# Altium integrated library Altera APEX 20KE.IntLib: 235 symbols (part 24 of 49)
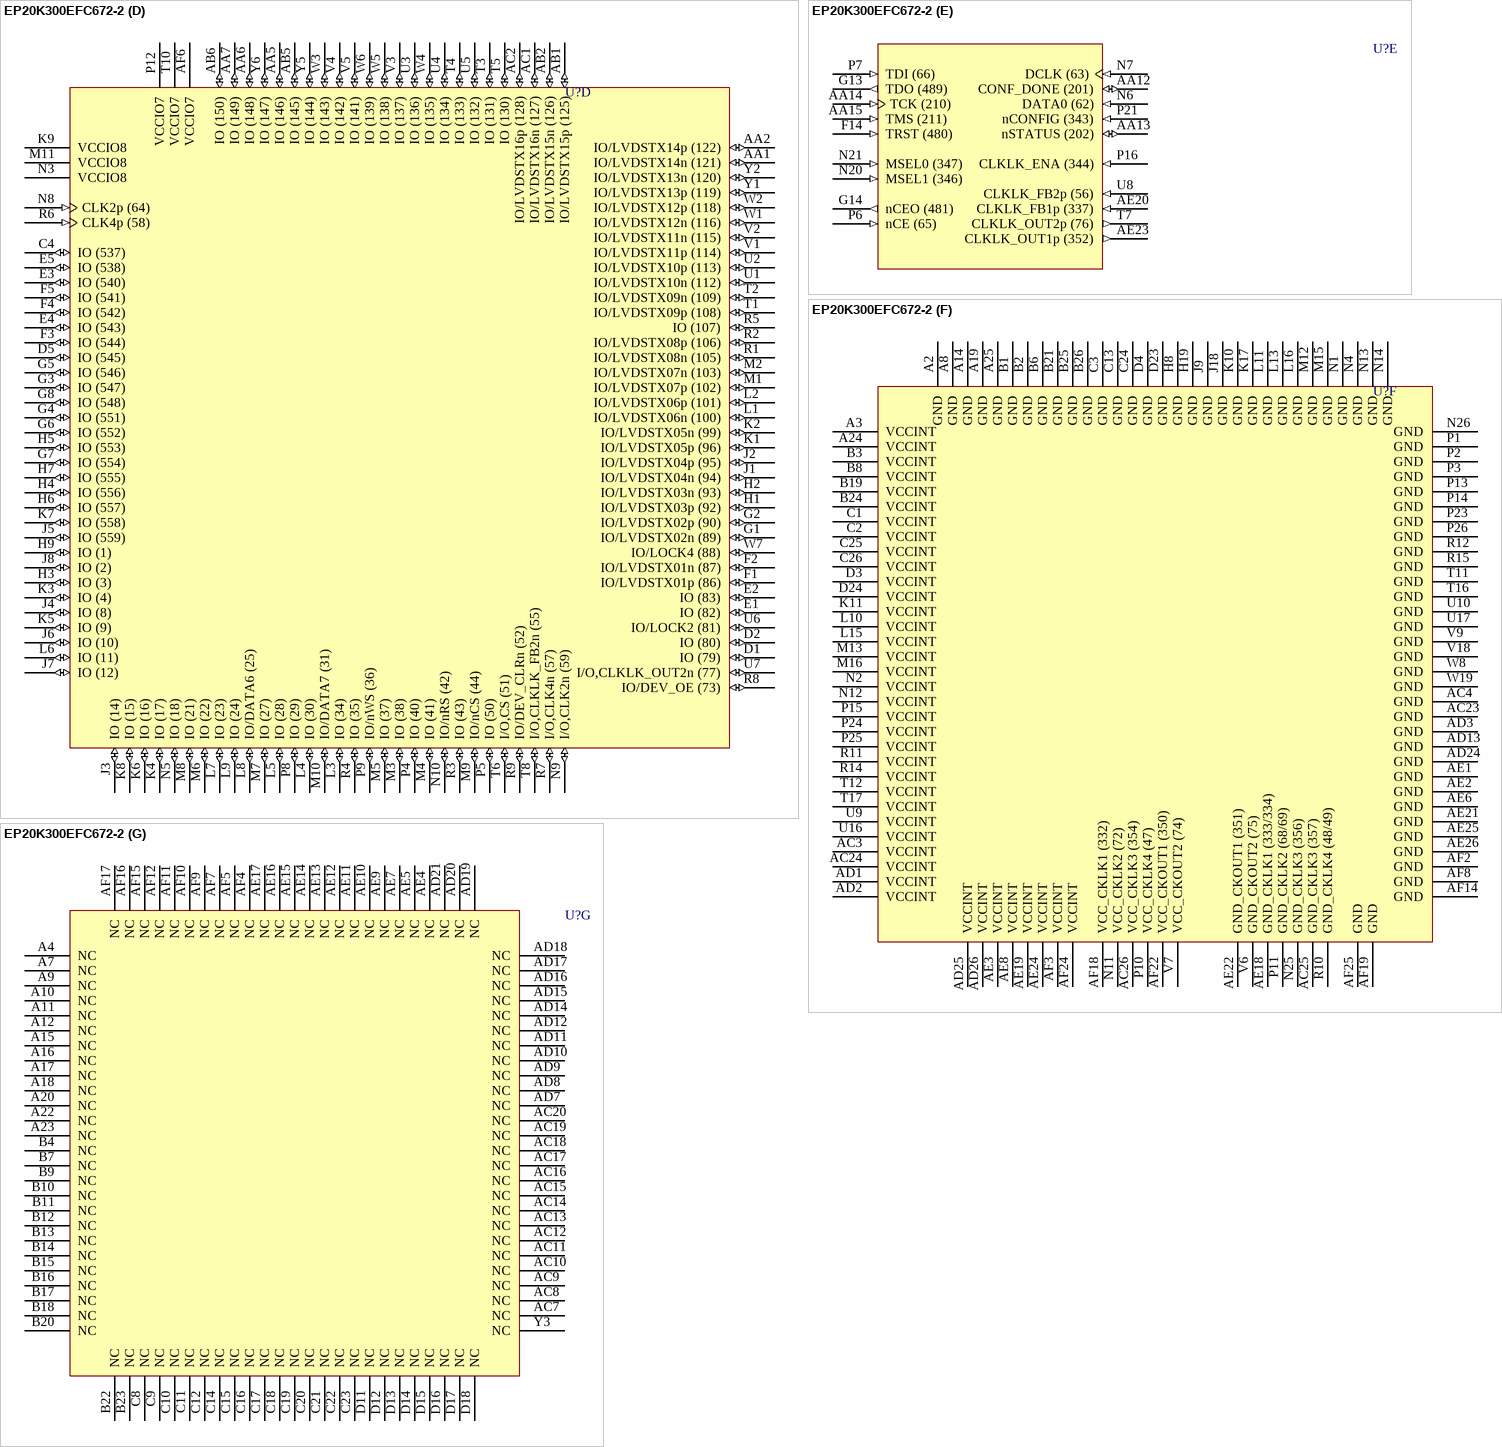
[diagram p422: symbol EP20K300EFC672-2]

## EP20K300EFC672-2
designator U?
APEX 20K300E PLD, 672-Pin FBGA, Commercial Grade, Speed Grade 2; Published: 17-Jul-2002; LatestRevisionDate: 13-Apr-2006; LatestRevisionNote: IPC-7351 Footprint Added.; DatasheetVersion: Mar-2004; PackageVersion: ver14.1, Oct-2005; PackageReference: FBGA672; Publisher: Altium Limited; PackageDescription: 672-Ball FineLine Ball Grid Array (FBGA672) - Flip Chip; Code_JEDEC: MS-034-AAL-1; ComponentLink1Description: Manufacturer Link; ComponentLink1URL: http://www.altera.com/products/devices/apex/apx-index.html; ComponentLink2Description: Datasheet; ComponentLink2URL: http://www.altera.com/literature/ds/apex.pdf
footprint FBGA672 (BGA, 672-Leads, Body 27x27mm, Pitch 1mm)
3D model EP20K300E-FBGA672 (672-Ball FineLine Ball Grid Array (FBGA672) - Flip Chip)
part A pins: A5 IO (535) (io), A6 VCCIO1 (power), A13 VCCIO2 (power), B5 IO (534) (io), C5 IO (533) (io), C6 IO (532) (io), C7 IO (531) (io), D6 IO (522) (io), D7 IO (521) (io), D8 IO (513) (io), D9 IO (508) (io), D10 IO (506) (io), D19 IO (457) (io), D20 IO (454) (io), D21 IO (441) (io), D22 IO (433) (io), E6 IO (530) (io), E7 IO (517) (io), E8 IO (514) (io), E9 IO (505) (io), E10 IO (499) (io), E11 IO (495) (io), E12 IO (494) (io), E13 IO (475) (io), E14 IO (473) (io), E15 IO (471) (io), E16 IO (467) (io), E17 IO (461) (io), E18 IO (459) (io), E19 IO (452) (io), E20 IO (448) (io), E21 IO (439) (io), E23 IO (432) (io), E24 IO (435) (io), F6 IO/DATA5 (560) (io), F7 IO (529) (io), F8 IO (516) (io), F9 IO (507) (io), F10 IO/DATA3 (536) (io), F11 IO (502) (io), F12 IO (492) (io), F13 FAST2 (488) (io), F15 IO (472) (io), F16 IO (465) (io), F17 IO (462) (io), F18 IO (460) (io), F19 IO (451) (io), F20 IO (440) (io), F23 IO (438) (io), F24 IO (434) (io), G9 IO/DATA4 (549) (io), G10 IO (518) (io), G11 IO (504) (io), G12 IO (503) (io), G15 IO (477) (io), G16 IO (468) (io), G17 IO (463) (io), G18 IO (456) (io), G19 IO (450) (io), G23 IO (437) (io), H10 IO (519) (io), H11 IO (510) (io), H12 IO (498) (io), H13 IO (491) (io), H14 FAST1 (482) (io), H15 IO (474) (io), H16 IO (470) (io), H17 IO (464) (io), H18 IO (455) (io), H23 IO (436) (io), J10 VCCIO1 (power), J11 IO (520) (io), J12 IO/DATA2 (523) (io), J13 IO (496) (io), J14 IO/RDYnBSY (497) (io), J15 IO/INIT_DONE (493) (io), J16 IO (479) (io), J17 IO (466) (io), J19 IO (449) (io), K12 IO (509) (io), K13 IO/DATA1 (511) (io), K14 I/O,CLKUSR (500) (io), K15 IO (478) (io), K16 VCCIO2 (power), K18 IO (453) (io), L12 VCCIO1 (power), L14 IO (476) (io), M14 VCCIO2 (power)
part B pins: A21 VCCIO3 (power), AA21 IO (261) (io), AA22 IO (274) (io), AA25 IO/LVDSRX01p (364) (io), AA26 IO/LVDSRX01n (365) (io), AB21 IO (263) (io), AB22 IO (265) (io), AB25 IO (358) (io), AB26 IO (359) (io), AF20 I/O,CLKLK_FB1n (336) (io), AF23 I/O,CLKLK_OUT1n (353) (io), D25 IO/LVDSRX16n (406) (io), D26 IO/LVDSRX16p (407) (io), E22 IO (430) (io), E25 IO/LVDSRX15p (404) (io), E26 IO/LVDSRX15n (405) (io), F21 IO (429) (io), F22 IO (427) (io), F25 IO/LVDSRX14n (400) (io), F26 IO/LVDSRX14p (401) (io), G20 IO (428) (io), G21 IO (425) (io), G22 IO (418) (io), G24 IO (423) (io), G25 IO/LVDSRX13p (398) (io), G26 IO/LVDSRX13n (399) (io), H20 IO (419) (io), H21 IO (424) (io), H22 IO (421) (io), H24 IO (415) (io), H25 IO/LVDSRX12n (395) (io), H26 IO/LVDSRX12p (397) (io), J20 IO (417) (io), J21 IO (426) (io), J22 IO (422) (io), J23 IO (386) (io), J24 IO (361) (io), J25 IO/LVDSRX11p (393) (io), J26 IO/LVDSRX11n (394) (io), K19 IO (416) (io), K20 IO (412) (io), K21 IO (410) (io), K22 IO (413) (io), K23 IO (411) (io), K24 IO (414) (io), K25 IO/LVDSRX10n (391) (io), K26 IO/LVDSRX10p (392) (io), L17 VCCIO3 (power), L18 IO/LOCK3 (366) (io), L19 IO (360) (io), L20 IO (306) (io), L21 IO/LOCK1 (326) (io), L22 IO (325) (io), L23 IO (329) (io), L24 IO (330) (io), L25 IO/LVDSRX09p (387) (io), L26 IO/LVDSRX09n (388) (io), M17 IO (308) (io), M18 IO (310) (io), M19 CLK3p (339) (in), M20 I/O,CLK3n (338) (io), M21 IO (318) (io), M22 IO (322) (io), M23 IO (324) (io), M24 IO (319) (io), M25 IO/LVDSRX08n (384) (io), M26 IO/LVDSRX08p (385) (io), N15 VCCIO3 (power), N16 IO (286) (io), N17 IO (293) (io), N18 IO (302) (io), N19 IO (304) (io), N22 IO (305) (io), N23 IO (331) (io), N24 VCCIO4 (power), P17 IO (280) (io), P18 IO (292) (io), P19 I/O,CLK1n (340) (io), P20 CLK1p (345) (in), P22 IO (299) (io), R16 VCCIO4 (power), R17 IO (276) (io), R18 IO (281) (io), R19 IO (290) (io), R20 IO (298) (io), R21 IO (296) (io), R22 IO (323) (io), R23 IO (312) (io), R24 IO (316) (io), R25 IO/LVDSRX07p (380) (io), R26 IO/LVDSRX07n (381) (io), T18 IO (267) (io), T19 IO (278) (io), T20 IO (284) (io), T21 IO (295) (io), T22 IO (309) (io), T23 IO (311) (io), T24 IO (317) (io), T25 IO/LVDSRX06n (378) (io), T26 IO/LVDSRX06p (379) (io), U18 VCCIO4 (power), U19 IO (264) (io), U20 IO (275) (io), U21 IO (279) (io), U22 IO (297) (io), U23 IO (303) (io), U24 IO (315) (io), U25 IO/LVDSRX05p (374) (io), U26 IO/LVDSRX05n (377) (io), V19 IO (266) (io), V20 IO (269) (io), V21 IO (270) (io), V22 IO (289) (io), V23 IO (291) (io), V24 IO (285) (io), V25 IO/LVDSRX04n (372) (io), V26 IO/LVDSRX04p (373) (io), W21 IO (268) (io), W22 IO (273) (io), W23 IO (277) (io), W24 IO (283) (io), W25 IO/LVDSRX03p (370) (io), W26 IO/LVDSRX03n (371) (io), Y21 IO (272) (io), Y22 IO (262) (io), Y25 IO/LVDSRX02n (367) (io), Y26 IO/LVDSRX02p (368) (io)
part C pins: AA3 IO (159) (io), AA4 IO (154) (io), AA8 IO (174) (io), AA9 IO (173) (io), AA10 IO (182) (io), AA11 IO (186) (io), AA16 IO (223) (io), AA17 IO (229) (io), AA18 IO (232) (io), AA19 IO (237) (io), AA20 IO (250) (io), AA23 IO (256) (io), AA24 IO (257) (io), AB3 IO (157) (io), AB4 IO (153) (io), AB7 IO (161) (io), AB8 IO (170) (io), AB9 IO (179) (io), AB10 IO (185) (io), AB11 IO (183) (io), AB12 IO (199) (io), AB13 IO (212) (io), AB14 IO (214) (io), AB15 IO (218) (io), AB16 IO (220) (io), AB17 IO (227) (io), AB18 IO (230) (io), AB19 IO (243) (io), AB20 IO (242) (io), AB23 IO (258) (io), AB24 IO (251) (io), AC5 IO (155) (io), AC6 IO (168) (io), AC21 IO (253) (io), AC22 IO (252) (io), AD4 IO (158) (io), AD5 IO (160) (io), AD6 IO (169) (io), AD22 IO (239) (io), AD23 IO (249) (io), AF13 VCCIO6 (power), AF21 VCCIO5 (power), R13 VCCIO6 (power), T9 IO (172) (io), T13 IO (194) (io), T14 IO (221) (io), T15 VCCIO5 (power), U11 VCCIO6 (power), U12 IO (197) (io), U13 IO (196) (io), U14 IO (216) (io), U15 IO (226) (io), V8 IO (171) (io), V10 VCCIO6 (power), V11 IO (184) (io), V12 IO (190) (io), V13 IO (200) (io), V14 IO (213) (io), V15 IO (217) (io), V16 IO (228) (io), V17 VCCIO5 (power), W9 IO (177) (io), W10 IO (180) (io), W11 IO (188) (io), W12 IO (191) (io), W13 IO (198) (io), W14 IO (195) (io), W15 IO (219) (io), W16 IO (225) (io), W17 IO (234) (io), W18 IO (236) (io), W20 IO (240) (io), Y4 IO (156) (io), Y7 IO (162) (io), Y8 IO (175) (io), Y9 IO (176) (io), Y10 IO (181) (io), Y11 IO (187) (io), Y12 IO (193) (io), Y13 FAST4 (203) (io), Y14 FAST3 (209) (io), Y15 IO (215) (io), Y16 IO (224) (io), Y17 IO (231) (io), Y18 IO (235) (io), Y19 IO (238) (io), Y20 IO (241) (io), Y23 IO (254) (io), Y24 IO (255) (io)
part D pins: AA1 IO/LVDSTX14n (121) (io), AA2 IO/LVDSTX14p (122) (io), AA5 IO (146) (io), AA6 IO (148) (io), AA7 IO (149) (io), AB1 IO/LVDSTX15p (125) (io), AB2 IO/LVDSTX15n (126) (io), AB5 IO (145) (io), AB6 IO (150) (io), AC1 IO/LVDSTX16n (127) (io), AC2 IO/LVDSTX16p (128) (io), AF6 VCCIO7 (power), C4 IO (537) (io), D1 IO (79) (io), D2 IO (80) (io), D5 IO (545) (io), E1 IO (82) (io), E2 IO (83) (io), E3 IO (540) (io), E4 IO (543) (io), E5 IO (538) (io), F1 IO/LVDSTX01p (86) (io), F2 IO/LVDSTX01n (87) (io), F3 IO (544) (io), F4 IO (542) (io), F5 IO (541) (io), G1 IO/LVDSTX02n (89) (io), G2 IO/LVDSTX02p (90) (io), G3 IO (547) (io), G4 IO (551) (io), G5 IO (546) (io), G6 IO (552) (io), G7 IO (554) (io), G8 IO (548) (io), H1 IO/LVDSTX03p (92) (io), H2 IO/LVDSTX03n (93) (io), H3 IO (3) (io), H4 IO (556) (io), H5 IO (553) (io), H6 IO (557) (io), H7 IO (555) (io), H9 IO (1) (io), J1 IO/LVDSTX04n (94) (io), J2 IO/LVDSTX04p (95) (io), J3 IO (14) (io), J4 IO (8) (io), J5 IO (559) (io), J6 IO (10) (io), J7 IO (12) (io), J8 IO (2) (io), K1 IO/LVDSTX05p (96) (io), K2 IO/LVDSTX05n (99) (io), K3 IO (4) (io), K4 IO (17) (io), K5 IO (9) (io), K6 IO (16) (io), K7 IO (558) (io), K8 IO (15) (io), K9 VCCIO8 (power), L1 IO/LVDSTX06n (100) (io), L2 IO/LVDSTX06p (101) (io), L3 IO (34) (io), L4 IO (30) (io), L5 IO (28) (io), L6 IO (11) (io), L7 IO (23) (io), L8 IO/DATA6 (25) (io), L9 IO (24) (io), M1 IO/LVDSTX07p (102) (io), M2 IO/LVDSTX07n (103) (io), M3 IO (38) (io), M4 IO (41) (io), M5 IO (37) (io), M6 IO (22) (io), M7 IO (27) (io), M8 IO (21) (io), M9 IO/nCS (44) (io), M10 IO/DATA7 (31) (io), M11 VCCIO8 (power), N3 VCCIO8 (power), N5 IO (18) (io), N8 CLK2p (64) (in), N9 I/O,CLK2n (59) (io), N10 IO/nRS (42) (io), P4 IO (40) (io), P5 IO (50) (io), P8 IO (29) (io), P9 IO/nWS (36) (io), P12 VCCIO7 (power), R1 IO/LVDSTX08n (105) (io), R2 IO/LVDSTX08p (106) (io), R3 IO (43) (io), R4 IO (35) (io), R5 IO (107) (io), R6 CLK4p (58) (in), R7 I/O,CLK4n (57) (io), R8 IO/DEV_OE (73) (io), R9 IO/DEV_CLRn (52) (io), T1 IO/LVDSTX09p (108) (io), T2 IO/LVDSTX09n (109) (io), T3 IO (131) (io), T4 IO (133) (io), T5 IO (130) (io), T6 I/O,CS (51) (io), T8 I/O,CLKLK_FB2n (55) (io), T10 VCCIO7 (power), U1 IO/LVDSTX10n (112) (io), U2 IO/LVDSTX10p (113) (io), U3 IO (136) (io), U4 IO (134) (io), U5 IO (132) (io), U6 IO/LOCK2 (81) (io), U7 I/O,CLKLK_OUT2n (77) (io), V1 IO/LVDSTX11p (114) (io), V2 IO/LVDSTX11n (115) (io), V3 IO (137) (io), V4 IO (142) (io), V5 IO (141) (io), W1 IO/LVDSTX12n (116) (io), W2 IO/LVDSTX12p (118) (io), W3 IO (143) (io), W4 IO (135) (io), W5 IO (138) (io), W6 IO (139) (io), W7 IO/LOCK4 (88) (io), Y1 IO/LVDSTX13p (119) (io), Y2 IO/LVDSTX13n (120) (io), Y5 IO (144) (io), Y6 IO (147) (io)
part E pins: AA12 CONF_DONE (201) (io), AA13 nSTATUS (202) (io), AA14 TCK (210) (in), AA15 TMS (211) (in), AE20 CLKLK_FB1p (337) (in), AE23 CLKLK_OUT1p (352) (out), F14 TRST (480) (in), G13 TDO (489) (out), G14 nCEO (481) (out), N6 DATA0 (62) (in), N7 DCLK (63) (in), N20 MSEL1 (346) (in), N21 MSEL0 (347) (in), P6 nCE (65) (in), P7 TDI (66) (in), P16 CLKLK_ENA (344) (in), P21 nCONFIG (343) (in), T7 CLKLK_OUT2p (76) (out), U8 CLKLK_FB2p (56) (in)
part F pins: A2 GND (power), A3 VCCINT (power), A8 GND (power), A14 GND (power), A19 GND (power), A24 VCCINT (power), A25 GND (power), AC3 VCCINT (power), AC4 GND (power), AC23 GND (power), AC24 VCCINT (power), AC25 GND_CKLK3 (357) (power), AC26 VCC_CKLK3 (354) (power), AD1 VCCINT (power), AD2 VCCINT (power), AD3 GND (power), AD13 GND (power), AD24 GND (power), AD25 VCCINT (power), AD26 VCCINT (power), AE1 GND (power), AE2 GND (power), AE3 VCCINT (power), AE6 GND (power), AE8 VCCINT (power), AE18 GND_CKLK1 (333/334) (power), AE19 VCCINT (power), AE21 GND (power), AE22 GND_CKOUT1 (351) (power), AE24 VCCINT (power), AE25 GND (power), AE26 GND (power), AF2 GND (power), AF3 VCCINT (power), AF8 GND (power), AF14 GND (power), AF18 VCC_CKLK1 (332) (power), AF19 GND (power), AF22 VCC_CKOUT1 (350) (power), AF24 VCCINT (power), AF25 GND (power), B1 GND (power), B2 GND (power), B3 VCCINT (power), B6 GND (power), B8 VCCINT (power), B19 VCCINT (power), B21 GND (power), B24 VCCINT (power), B25 GND (power), B26 GND (power), C1 VCCINT (power), C2 VCCINT (power), C3 GND (power), C13 GND (power), C24 GND (power), C25 VCCINT (power), C26 VCCINT (power), D3 VCCINT (power), D4 GND (power), D23 GND (power), D24 VCCINT (power), H8 GND (power), H19 GND (power), J9 GND (power), J18 GND (power), K10 GND (power), K11 VCCINT (power), K17 GND (power), L10 VCCINT (power), L11 GND (power), L13 GND (power), L15 VCCINT (power), L16 GND (power), M12 GND (power), M13 VCCINT (power), M15 GND (power), M16 VCCINT (power), N1 GND (power), N2 VCCINT (power), N4 GND (power), N11 VCC_CKLK2 (72) (power), N12 VCCINT (power), N13 GND (power), N14 GND (power), N25 GND_CKLK3 (356) (power), N26 GND (power), P1 GND (power), P2 GND (power), P3 GND (power), P10 VCC_CKLK4 (47) (power), P11 GND_CKLK2 (68/69) (power), P13 GND (power), P14 GND (power), P15 VCCINT (power), P23 GND (power), P24 VCCINT (power), P25 VCCINT (power), P26 GND (power), R10 GND_CKLK4 (48/49) (power), R11 VCCINT (power), R12 GND (power), R14 VCCINT (power), R15 GND (power), T11 GND (power), T12 VCCINT (power), T16 GND (power), T17 VCCINT (power), U9 VCCINT (power), U10 GND (power), U16 VCCINT (power), U17 GND (power), V6 GND_CKOUT2 (75) (power), V7 VCC_CKOUT2 (74) (power), V9 GND (power), V18 GND (power), W8 GND (power), W19 GND (power)
part G pins: A4 NC, A7 NC, A9 NC, A10 NC, A11 NC, A12 NC, A15 NC, A16 NC, A17 NC, A18 NC, A20 NC, A22 NC, A23 NC, AC7 NC, AC8 NC, AC9 NC, AC10 NC, AC11 NC, AC12 NC, AC13 NC, AC14 NC, AC15 NC, AC16 NC, AC17 NC, AC18 NC, AC19 NC, AC20 NC, AD7 NC, AD8 NC, AD9 NC, AD10 NC, AD11 NC, AD12 NC, AD14 NC, AD15 NC, AD16 NC, AD17 NC, AD18 NC, AD19 NC, AD20 NC, AD21 NC, AE4 NC, AE5 NC, AE7 NC, AE9 NC, AE10 NC, AE11 NC, AE12 NC, AE13 NC, AE14 NC, AE15 NC, AE16 NC, AE17 NC, AF4 NC, AF5 NC, AF7 NC, AF9 NC, AF10 NC, AF11 NC, AF12 NC, AF15 NC, AF16 NC, AF17 NC, B4 NC, B7 NC, B9 NC, B10 NC, B11 NC, B12 NC, B13 NC, B14 NC, B15 NC, B16 NC, B17 NC, B18 NC, B20 NC, B22 NC, B23 NC, C8 NC, C9 NC, C10 NC, C11 NC, C12 NC, C14 NC, C15 NC, C16 NC, C17 NC, C18 NC, C19 NC, C20 NC, C21 NC, C22 NC, C23 NC, D11 NC, D12 NC, D13 NC, D14 NC, D15 NC, D16 NC, D17 NC, D18 NC, Y3 NC

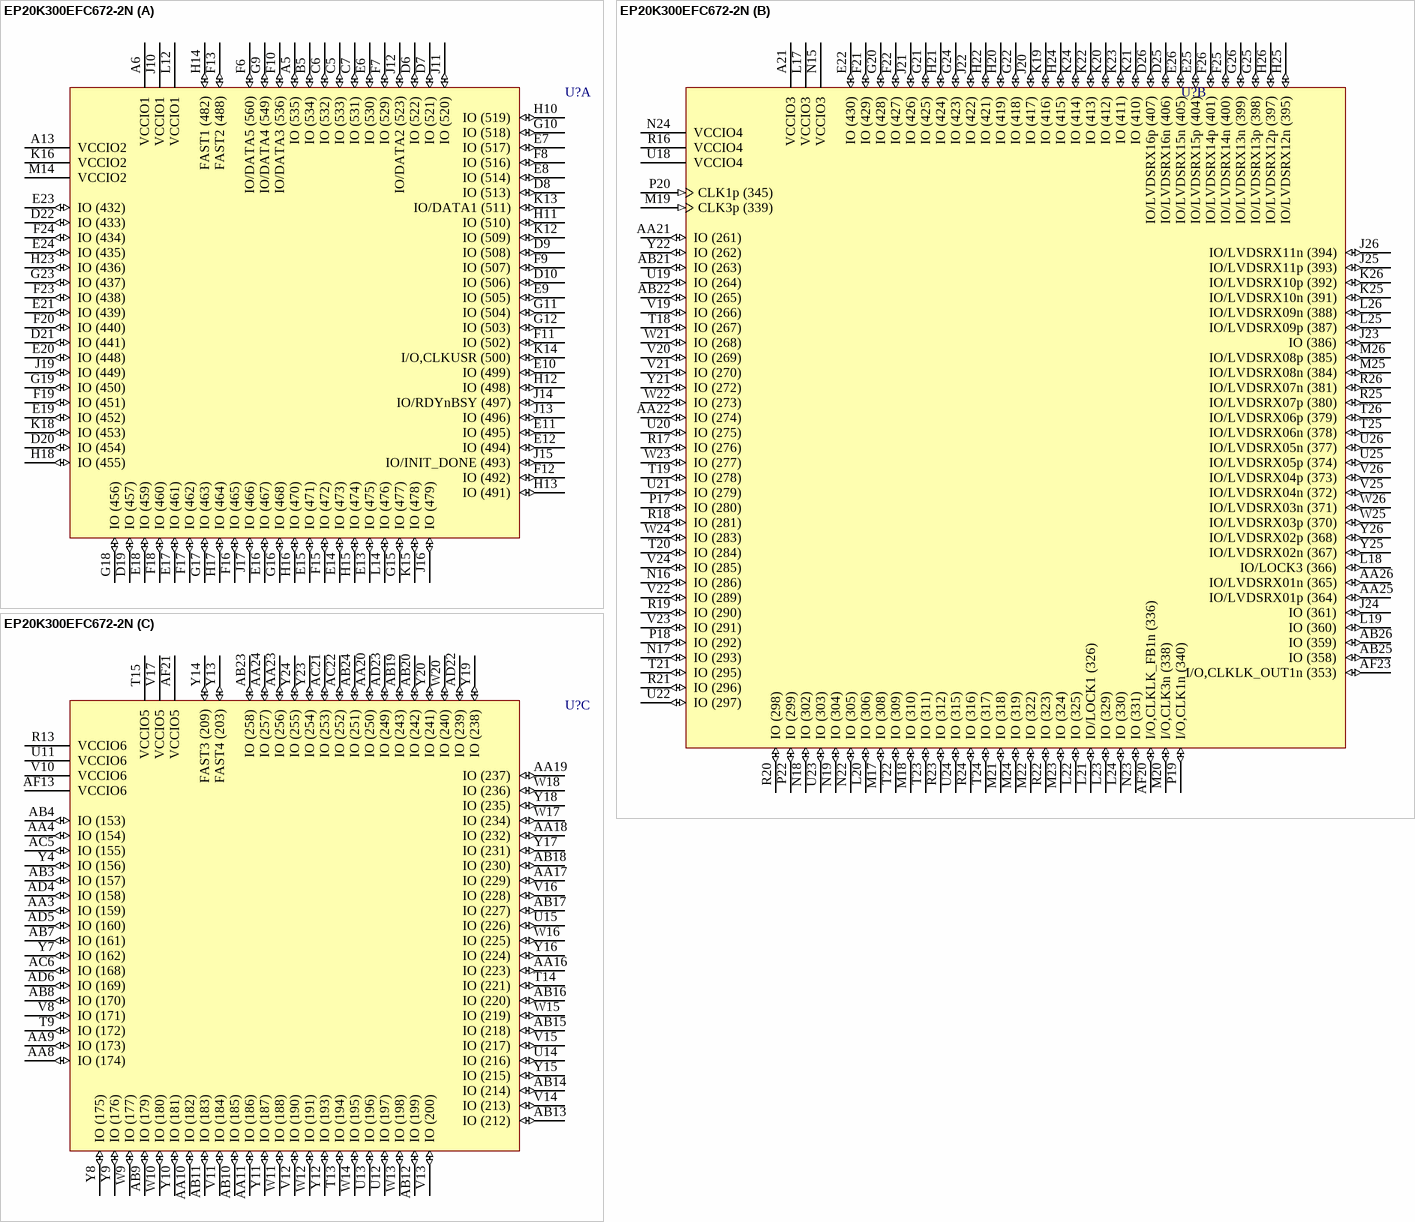
[diagram p233: symbol EP20K300EFC672-2N]

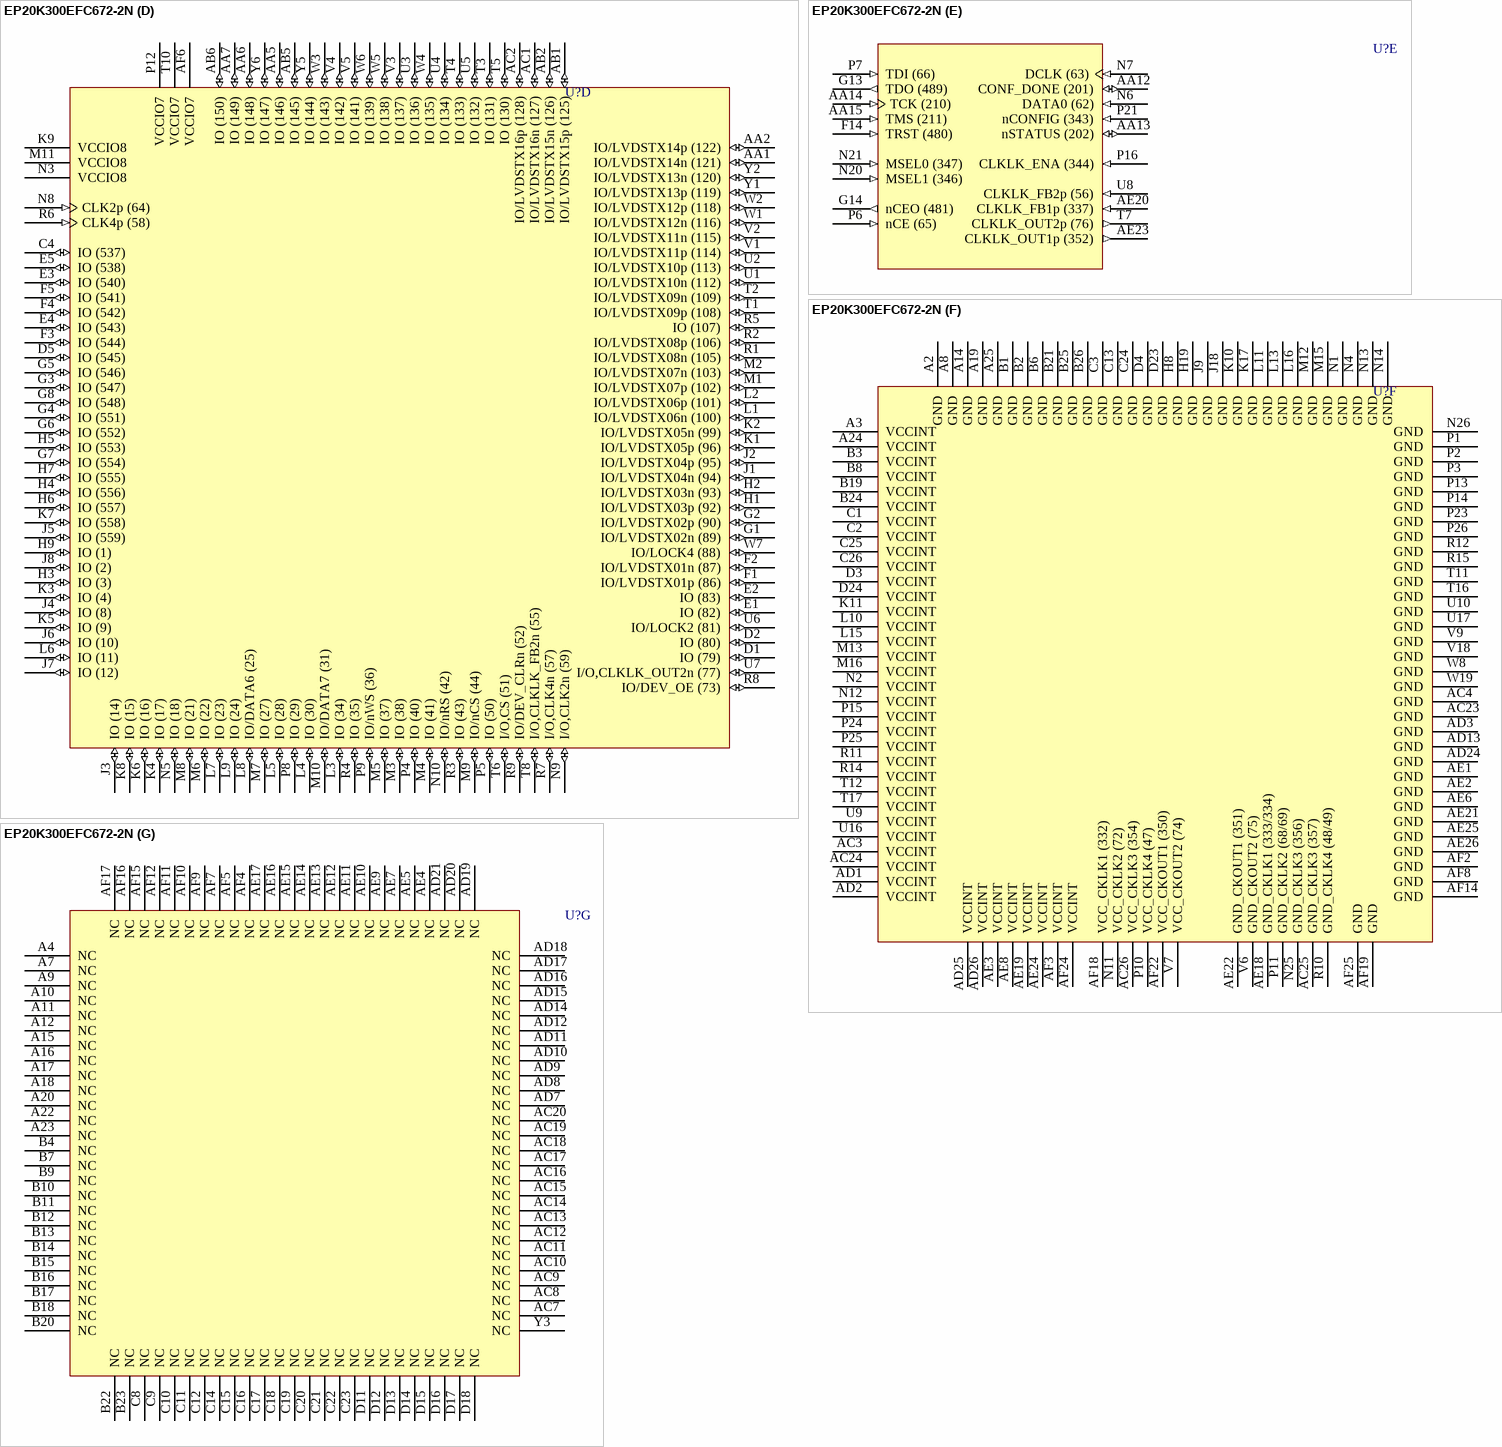
[diagram p234: symbol EP20K300EFC672-2N]

## EP20K300EFC672-2N
designator U?
APEX 20K300E PLD, 672-Pin FBGA, Pb-Free, Commercial Grade, Speed Grade 2; Published: 4-Mar-2005; LatestRevisionDate: 13-Apr-2006; LatestRevisionNote: IPC-7351 Footprint Added.; DatasheetVersion: Mar-2004; PackageVersion: ver14.1, Oct-2005; PackageReference: FBGA672; Publisher: Altium Limited; PackageDescription: 672-Ball FineLine Ball Grid Array (FBGA672) - Flip Chip; Code_JEDEC: MS-034-AAL-1; ComponentLink1Description: Manufacturer Link; ComponentLink1URL: http://www.altera.com/products/devices/apex/apx-index.html; ComponentLink2Description: Datasheet; ComponentLink2URL: http://www.altera.com/literature/ds/apex.pdf
footprint FBGA672 (BGA, 672-Leads, Body 27x27mm, Pitch 1mm)
3D model EP20K300E-FBGA672 (672-Ball FineLine Ball Grid Array (FBGA672) - Flip Chip)
part A pins: A5 IO (535) (io), A6 VCCIO1 (power), A13 VCCIO2 (power), B5 IO (534) (io), C5 IO (533) (io), C6 IO (532) (io), C7 IO (531) (io), D6 IO (522) (io), D7 IO (521) (io), D8 IO (513) (io), D9 IO (508) (io), D10 IO (506) (io), D19 IO (457) (io), D20 IO (454) (io), D21 IO (441) (io), D22 IO (433) (io), E6 IO (530) (io), E7 IO (517) (io), E8 IO (514) (io), E9 IO (505) (io), E10 IO (499) (io), E11 IO (495) (io), E12 IO (494) (io), E13 IO (475) (io), E14 IO (473) (io), E15 IO (471) (io), E16 IO (467) (io), E17 IO (461) (io), E18 IO (459) (io), E19 IO (452) (io), E20 IO (448) (io), E21 IO (439) (io), E23 IO (432) (io), E24 IO (435) (io), F6 IO/DATA5 (560) (io), F7 IO (529) (io), F8 IO (516) (io), F9 IO (507) (io), F10 IO/DATA3 (536) (io), F11 IO (502) (io), F12 IO (492) (io), F13 FAST2 (488) (io), F15 IO (472) (io), F16 IO (465) (io), F17 IO (462) (io), F18 IO (460) (io), F19 IO (451) (io), F20 IO (440) (io), F23 IO (438) (io), F24 IO (434) (io), G9 IO/DATA4 (549) (io), G10 IO (518) (io), G11 IO (504) (io), G12 IO (503) (io), G15 IO (477) (io), G16 IO (468) (io), G17 IO (463) (io), G18 IO (456) (io), G19 IO (450) (io), G23 IO (437) (io), H10 IO (519) (io), H11 IO (510) (io), H12 IO (498) (io), H13 IO (491) (io), H14 FAST1 (482) (io), H15 IO (474) (io), H16 IO (470) (io), H17 IO (464) (io), H18 IO (455) (io), H23 IO (436) (io), J10 VCCIO1 (power), J11 IO (520) (io), J12 IO/DATA2 (523) (io), J13 IO (496) (io), J14 IO/RDYnBSY (497) (io), J15 IO/INIT_DONE (493) (io), J16 IO (479) (io), J17 IO (466) (io), J19 IO (449) (io), K12 IO (509) (io), K13 IO/DATA1 (511) (io), K14 I/O,CLKUSR (500) (io), K15 IO (478) (io), K16 VCCIO2 (power), K18 IO (453) (io), L12 VCCIO1 (power), L14 IO (476) (io), M14 VCCIO2 (power)
part B pins: A21 VCCIO3 (power), AA21 IO (261) (io), AA22 IO (274) (io), AA25 IO/LVDSRX01p (364) (io), AA26 IO/LVDSRX01n (365) (io), AB21 IO (263) (io), AB22 IO (265) (io), AB25 IO (358) (io), AB26 IO (359) (io), AF20 I/O,CLKLK_FB1n (336) (io), AF23 I/O,CLKLK_OUT1n (353) (io), D25 IO/LVDSRX16n (406) (io), D26 IO/LVDSRX16p (407) (io), E22 IO (430) (io), E25 IO/LVDSRX15p (404) (io), E26 IO/LVDSRX15n (405) (io), F21 IO (429) (io), F22 IO (427) (io), F25 IO/LVDSRX14n (400) (io), F26 IO/LVDSRX14p (401) (io), G20 IO (428) (io), G21 IO (425) (io), G22 IO (418) (io), G24 IO (423) (io), G25 IO/LVDSRX13p (398) (io), G26 IO/LVDSRX13n (399) (io), H20 IO (419) (io), H21 IO (424) (io), H22 IO (421) (io), H24 IO (415) (io), H25 IO/LVDSRX12n (395) (io), H26 IO/LVDSRX12p (397) (io), J20 IO (417) (io), J21 IO (426) (io), J22 IO (422) (io), J23 IO (386) (io), J24 IO (361) (io), J25 IO/LVDSRX11p (393) (io), J26 IO/LVDSRX11n (394) (io), K19 IO (416) (io), K20 IO (412) (io), K21 IO (410) (io), K22 IO (413) (io), K23 IO (411) (io), K24 IO (414) (io), K25 IO/LVDSRX10n (391) (io), K26 IO/LVDSRX10p (392) (io), L17 VCCIO3 (power), L18 IO/LOCK3 (366) (io), L19 IO (360) (io), L20 IO (306) (io), L21 IO/LOCK1 (326) (io), L22 IO (325) (io), L23 IO (329) (io), L24 IO (330) (io), L25 IO/LVDSRX09p (387) (io), L26 IO/LVDSRX09n (388) (io), M17 IO (308) (io), M18 IO (310) (io), M19 CLK3p (339) (in), M20 I/O,CLK3n (338) (io), M21 IO (318) (io), M22 IO (322) (io), M23 IO (324) (io), M24 IO (319) (io), M25 IO/LVDSRX08n (384) (io), M26 IO/LVDSRX08p (385) (io), N15 VCCIO3 (power), N16 IO (286) (io), N17 IO (293) (io), N18 IO (302) (io), N19 IO (304) (io), N22 IO (305) (io), N23 IO (331) (io), N24 VCCIO4 (power), P17 IO (280) (io), P18 IO (292) (io), P19 I/O,CLK1n (340) (io), P20 CLK1p (345) (in), P22 IO (299) (io), R16 VCCIO4 (power), R17 IO (276) (io), R18 IO (281) (io), R19 IO (290) (io), R20 IO (298) (io), R21 IO (296) (io), R22 IO (323) (io), R23 IO (312) (io), R24 IO (316) (io), R25 IO/LVDSRX07p (380) (io), R26 IO/LVDSRX07n (381) (io), T18 IO (267) (io), T19 IO (278) (io), T20 IO (284) (io), T21 IO (295) (io), T22 IO (309) (io), T23 IO (311) (io), T24 IO (317) (io), T25 IO/LVDSRX06n (378) (io), T26 IO/LVDSRX06p (379) (io), U18 VCCIO4 (power), U19 IO (264) (io), U20 IO (275) (io), U21 IO (279) (io), U22 IO (297) (io), U23 IO (303) (io), U24 IO (315) (io), U25 IO/LVDSRX05p (374) (io), U26 IO/LVDSRX05n (377) (io), V19 IO (266) (io), V20 IO (269) (io), V21 IO (270) (io), V22 IO (289) (io), V23 IO (291) (io), V24 IO (285) (io), V25 IO/LVDSRX04n (372) (io), V26 IO/LVDSRX04p (373) (io), W21 IO (268) (io), W22 IO (273) (io), W23 IO (277) (io), W24 IO (283) (io), W25 IO/LVDSRX03p (370) (io), W26 IO/LVDSRX03n (371) (io), Y21 IO (272) (io), Y22 IO (262) (io), Y25 IO/LVDSRX02n (367) (io), Y26 IO/LVDSRX02p (368) (io)
part C pins: AA3 IO (159) (io), AA4 IO (154) (io), AA8 IO (174) (io), AA9 IO (173) (io), AA10 IO (182) (io), AA11 IO (186) (io), AA16 IO (223) (io), AA17 IO (229) (io), AA18 IO (232) (io), AA19 IO (237) (io), AA20 IO (250) (io), AA23 IO (256) (io), AA24 IO (257) (io), AB3 IO (157) (io), AB4 IO (153) (io), AB7 IO (161) (io), AB8 IO (170) (io), AB9 IO (179) (io), AB10 IO (185) (io), AB11 IO (183) (io), AB12 IO (199) (io), AB13 IO (212) (io), AB14 IO (214) (io), AB15 IO (218) (io), AB16 IO (220) (io), AB17 IO (227) (io), AB18 IO (230) (io), AB19 IO (243) (io), AB20 IO (242) (io), AB23 IO (258) (io), AB24 IO (251) (io), AC5 IO (155) (io), AC6 IO (168) (io), AC21 IO (253) (io), AC22 IO (252) (io), AD4 IO (158) (io), AD5 IO (160) (io), AD6 IO (169) (io), AD22 IO (239) (io), AD23 IO (249) (io), AF13 VCCIO6 (power), AF21 VCCIO5 (power), R13 VCCIO6 (power), T9 IO (172) (io), T13 IO (194) (io), T14 IO (221) (io), T15 VCCIO5 (power), U11 VCCIO6 (power), U12 IO (197) (io), U13 IO (196) (io), U14 IO (216) (io), U15 IO (226) (io), V8 IO (171) (io), V10 VCCIO6 (power), V11 IO (184) (io), V12 IO (190) (io), V13 IO (200) (io), V14 IO (213) (io), V15 IO (217) (io), V16 IO (228) (io), V17 VCCIO5 (power), W9 IO (177) (io), W10 IO (180) (io), W11 IO (188) (io), W12 IO (191) (io), W13 IO (198) (io), W14 IO (195) (io), W15 IO (219) (io), W16 IO (225) (io), W17 IO (234) (io), W18 IO (236) (io), W20 IO (240) (io), Y4 IO (156) (io), Y7 IO (162) (io), Y8 IO (175) (io), Y9 IO (176) (io), Y10 IO (181) (io), Y11 IO (187) (io), Y12 IO (193) (io), Y13 FAST4 (203) (io), Y14 FAST3 (209) (io), Y15 IO (215) (io), Y16 IO (224) (io), Y17 IO (231) (io), Y18 IO (235) (io), Y19 IO (238) (io), Y20 IO (241) (io), Y23 IO (254) (io), Y24 IO (255) (io)
part D pins: AA1 IO/LVDSTX14n (121) (io), AA2 IO/LVDSTX14p (122) (io), AA5 IO (146) (io), AA6 IO (148) (io), AA7 IO (149) (io), AB1 IO/LVDSTX15p (125) (io), AB2 IO/LVDSTX15n (126) (io), AB5 IO (145) (io), AB6 IO (150) (io), AC1 IO/LVDSTX16n (127) (io), AC2 IO/LVDSTX16p (128) (io), AF6 VCCIO7 (power), C4 IO (537) (io), D1 IO (79) (io), D2 IO (80) (io), D5 IO (545) (io), E1 IO (82) (io), E2 IO (83) (io), E3 IO (540) (io), E4 IO (543) (io), E5 IO (538) (io), F1 IO/LVDSTX01p (86) (io), F2 IO/LVDSTX01n (87) (io), F3 IO (544) (io), F4 IO (542) (io), F5 IO (541) (io), G1 IO/LVDSTX02n (89) (io), G2 IO/LVDSTX02p (90) (io), G3 IO (547) (io), G4 IO (551) (io), G5 IO (546) (io), G6 IO (552) (io), G7 IO (554) (io), G8 IO (548) (io), H1 IO/LVDSTX03p (92) (io), H2 IO/LVDSTX03n (93) (io), H3 IO (3) (io), H4 IO (556) (io), H5 IO (553) (io), H6 IO (557) (io), H7 IO (555) (io), H9 IO (1) (io), J1 IO/LVDSTX04n (94) (io), J2 IO/LVDSTX04p (95) (io), J3 IO (14) (io), J4 IO (8) (io), J5 IO (559) (io), J6 IO (10) (io), J7 IO (12) (io), J8 IO (2) (io), K1 IO/LVDSTX05p (96) (io), K2 IO/LVDSTX05n (99) (io), K3 IO (4) (io), K4 IO (17) (io), K5 IO (9) (io), K6 IO (16) (io), K7 IO (558) (io), K8 IO (15) (io), K9 VCCIO8 (power), L1 IO/LVDSTX06n (100) (io), L2 IO/LVDSTX06p (101) (io), L3 IO (34) (io), L4 IO (30) (io), L5 IO (28) (io), L6 IO (11) (io), L7 IO (23) (io), L8 IO/DATA6 (25) (io), L9 IO (24) (io), M1 IO/LVDSTX07p (102) (io), M2 IO/LVDSTX07n (103) (io), M3 IO (38) (io), M4 IO (41) (io), M5 IO (37) (io), M6 IO (22) (io), M7 IO (27) (io), M8 IO (21) (io), M9 IO/nCS (44) (io), M10 IO/DATA7 (31) (io), M11 VCCIO8 (power), N3 VCCIO8 (power), N5 IO (18) (io), N8 CLK2p (64) (in), N9 I/O,CLK2n (59) (io), N10 IO/nRS (42) (io), P4 IO (40) (io), P5 IO (50) (io), P8 IO (29) (io), P9 IO/nWS (36) (io), P12 VCCIO7 (power), R1 IO/LVDSTX08n (105) (io), R2 IO/LVDSTX08p (106) (io), R3 IO (43) (io), R4 IO (35) (io), R5 IO (107) (io), R6 CLK4p (58) (in), R7 I/O,CLK4n (57) (io), R8 IO/DEV_OE (73) (io), R9 IO/DEV_CLRn (52) (io), T1 IO/LVDSTX09p (108) (io), T2 IO/LVDSTX09n (109) (io), T3 IO (131) (io), T4 IO (133) (io), T5 IO (130) (io), T6 I/O,CS (51) (io), T8 I/O,CLKLK_FB2n (55) (io), T10 VCCIO7 (power), U1 IO/LVDSTX10n (112) (io), U2 IO/LVDSTX10p (113) (io), U3 IO (136) (io), U4 IO (134) (io), U5 IO (132) (io), U6 IO/LOCK2 (81) (io), U7 I/O,CLKLK_OUT2n (77) (io), V1 IO/LVDSTX11p (114) (io), V2 IO/LVDSTX11n (115) (io), V3 IO (137) (io), V4 IO (142) (io), V5 IO (141) (io), W1 IO/LVDSTX12n (116) (io), W2 IO/LVDSTX12p (118) (io), W3 IO (143) (io), W4 IO (135) (io), W5 IO (138) (io), W6 IO (139) (io), W7 IO/LOCK4 (88) (io), Y1 IO/LVDSTX13p (119) (io), Y2 IO/LVDSTX13n (120) (io), Y5 IO (144) (io), Y6 IO (147) (io)
part E pins: AA12 CONF_DONE (201) (io), AA13 nSTATUS (202) (io), AA14 TCK (210) (in), AA15 TMS (211) (in), AE20 CLKLK_FB1p (337) (in), AE23 CLKLK_OUT1p (352) (out), F14 TRST (480) (in), G13 TDO (489) (out), G14 nCEO (481) (out), N6 DATA0 (62) (in), N7 DCLK (63) (in), N20 MSEL1 (346) (in), N21 MSEL0 (347) (in), P6 nCE (65) (in), P7 TDI (66) (in), P16 CLKLK_ENA (344) (in), P21 nCONFIG (343) (in), T7 CLKLK_OUT2p (76) (out), U8 CLKLK_FB2p (56) (in)
part F pins: A2 GND (power), A3 VCCINT (power), A8 GND (power), A14 GND (power), A19 GND (power), A24 VCCINT (power), A25 GND (power), AC3 VCCINT (power), AC4 GND (power), AC23 GND (power), AC24 VCCINT (power), AC25 GND_CKLK3 (357) (power), AC26 VCC_CKLK3 (354) (power), AD1 VCCINT (power), AD2 VCCINT (power), AD3 GND (power), AD13 GND (power), AD24 GND (power), AD25 VCCINT (power), AD26 VCCINT (power), AE1 GND (power), AE2 GND (power), AE3 VCCINT (power), AE6 GND (power), AE8 VCCINT (power), AE18 GND_CKLK1 (333/334) (power), AE19 VCCINT (power), AE21 GND (power), AE22 GND_CKOUT1 (351) (power), AE24 VCCINT (power), AE25 GND (power), AE26 GND (power), AF2 GND (power), AF3 VCCINT (power), AF8 GND (power), AF14 GND (power), AF18 VCC_CKLK1 (332) (power), AF19 GND (power), AF22 VCC_CKOUT1 (350) (power), AF24 VCCINT (power), AF25 GND (power), B1 GND (power), B2 GND (power), B3 VCCINT (power), B6 GND (power), B8 VCCINT (power), B19 VCCINT (power), B21 GND (power), B24 VCCINT (power), B25 GND (power), B26 GND (power), C1 VCCINT (power), C2 VCCINT (power), C3 GND (power), C13 GND (power), C24 GND (power), C25 VCCINT (power), C26 VCCINT (power), D3 VCCINT (power), D4 GND (power), D23 GND (power), D24 VCCINT (power), H8 GND (power), H19 GND (power), J9 GND (power), J18 GND (power), K10 GND (power), K11 VCCINT (power), K17 GND (power), L10 VCCINT (power), L11 GND (power), L13 GND (power), L15 VCCINT (power), L16 GND (power), M12 GND (power), M13 VCCINT (power), M15 GND (power), M16 VCCINT (power), N1 GND (power), N2 VCCINT (power), N4 GND (power), N11 VCC_CKLK2 (72) (power), N12 VCCINT (power), N13 GND (power), N14 GND (power), N25 GND_CKLK3 (356) (power), N26 GND (power), P1 GND (power), P2 GND (power), P3 GND (power), P10 VCC_CKLK4 (47) (power), P11 GND_CKLK2 (68/69) (power), P13 GND (power), P14 GND (power), P15 VCCINT (power), P23 GND (power), P24 VCCINT (power), P25 VCCINT (power), P26 GND (power), R10 GND_CKLK4 (48/49) (power), R11 VCCINT (power), R12 GND (power), R14 VCCINT (power), R15 GND (power), T11 GND (power), T12 VCCINT (power), T16 GND (power), T17 VCCINT (power), U9 VCCINT (power), U10 GND (power), U16 VCCINT (power), U17 GND (power), V6 GND_CKOUT2 (75) (power), V7 VCC_CKOUT2 (74) (power), V9 GND (power), V18 GND (power), W8 GND (power), W19 GND (power)
part G pins: A4 NC, A7 NC, A9 NC, A10 NC, A11 NC, A12 NC, A15 NC, A16 NC, A17 NC, A18 NC, A20 NC, A22 NC, A23 NC, AC7 NC, AC8 NC, AC9 NC, AC10 NC, AC11 NC, AC12 NC, AC13 NC, AC14 NC, AC15 NC, AC16 NC, AC17 NC, AC18 NC, AC19 NC, AC20 NC, AD7 NC, AD8 NC, AD9 NC, AD10 NC, AD11 NC, AD12 NC, AD14 NC, AD15 NC, AD16 NC, AD17 NC, AD18 NC, AD19 NC, AD20 NC, AD21 NC, AE4 NC, AE5 NC, AE7 NC, AE9 NC, AE10 NC, AE11 NC, AE12 NC, AE13 NC, AE14 NC, AE15 NC, AE16 NC, AE17 NC, AF4 NC, AF5 NC, AF7 NC, AF9 NC, AF10 NC, AF11 NC, AF12 NC, AF15 NC, AF16 NC, AF17 NC, B4 NC, B7 NC, B9 NC, B10 NC, B11 NC, B12 NC, B13 NC, B14 NC, B15 NC, B16 NC, B17 NC, B18 NC, B20 NC, B22 NC, B23 NC, C8 NC, C9 NC, C10 NC, C11 NC, C12 NC, C14 NC, C15 NC, C16 NC, C17 NC, C18 NC, C19 NC, C20 NC, C21 NC, C22 NC, C23 NC, D11 NC, D12 NC, D13 NC, D14 NC, D15 NC, D16 NC, D17 NC, D18 NC, Y3 NC

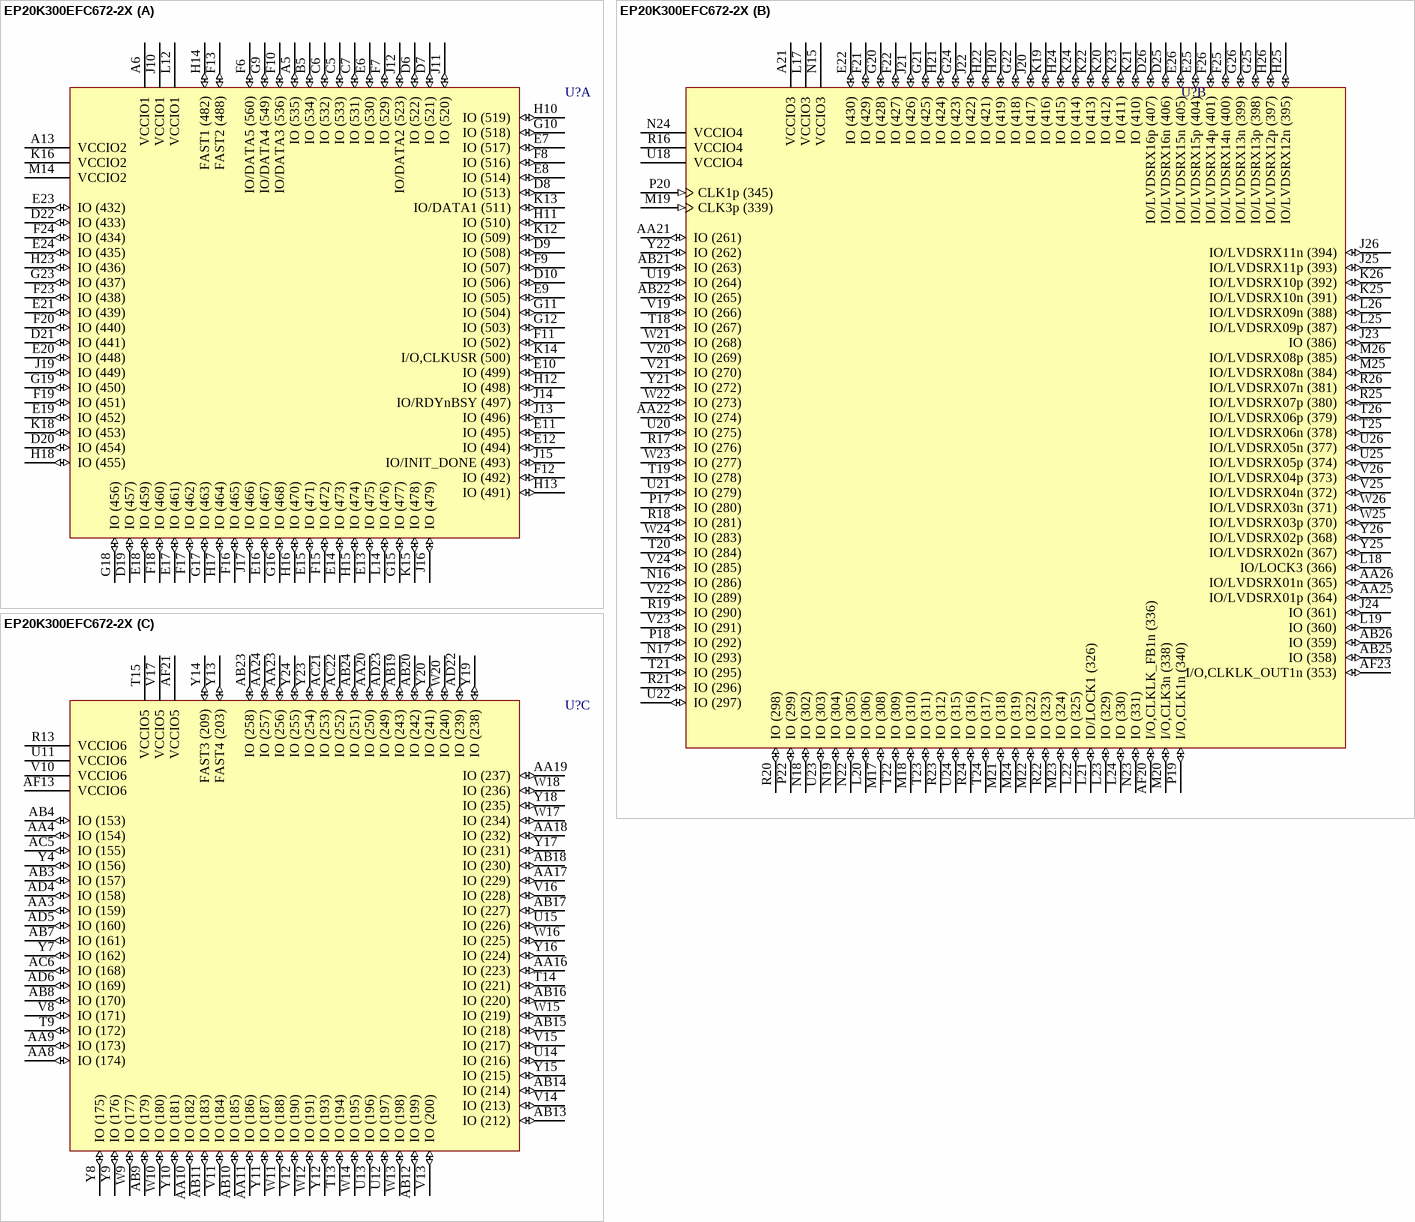
[diagram p235: symbol EP20K300EFC672-2X]

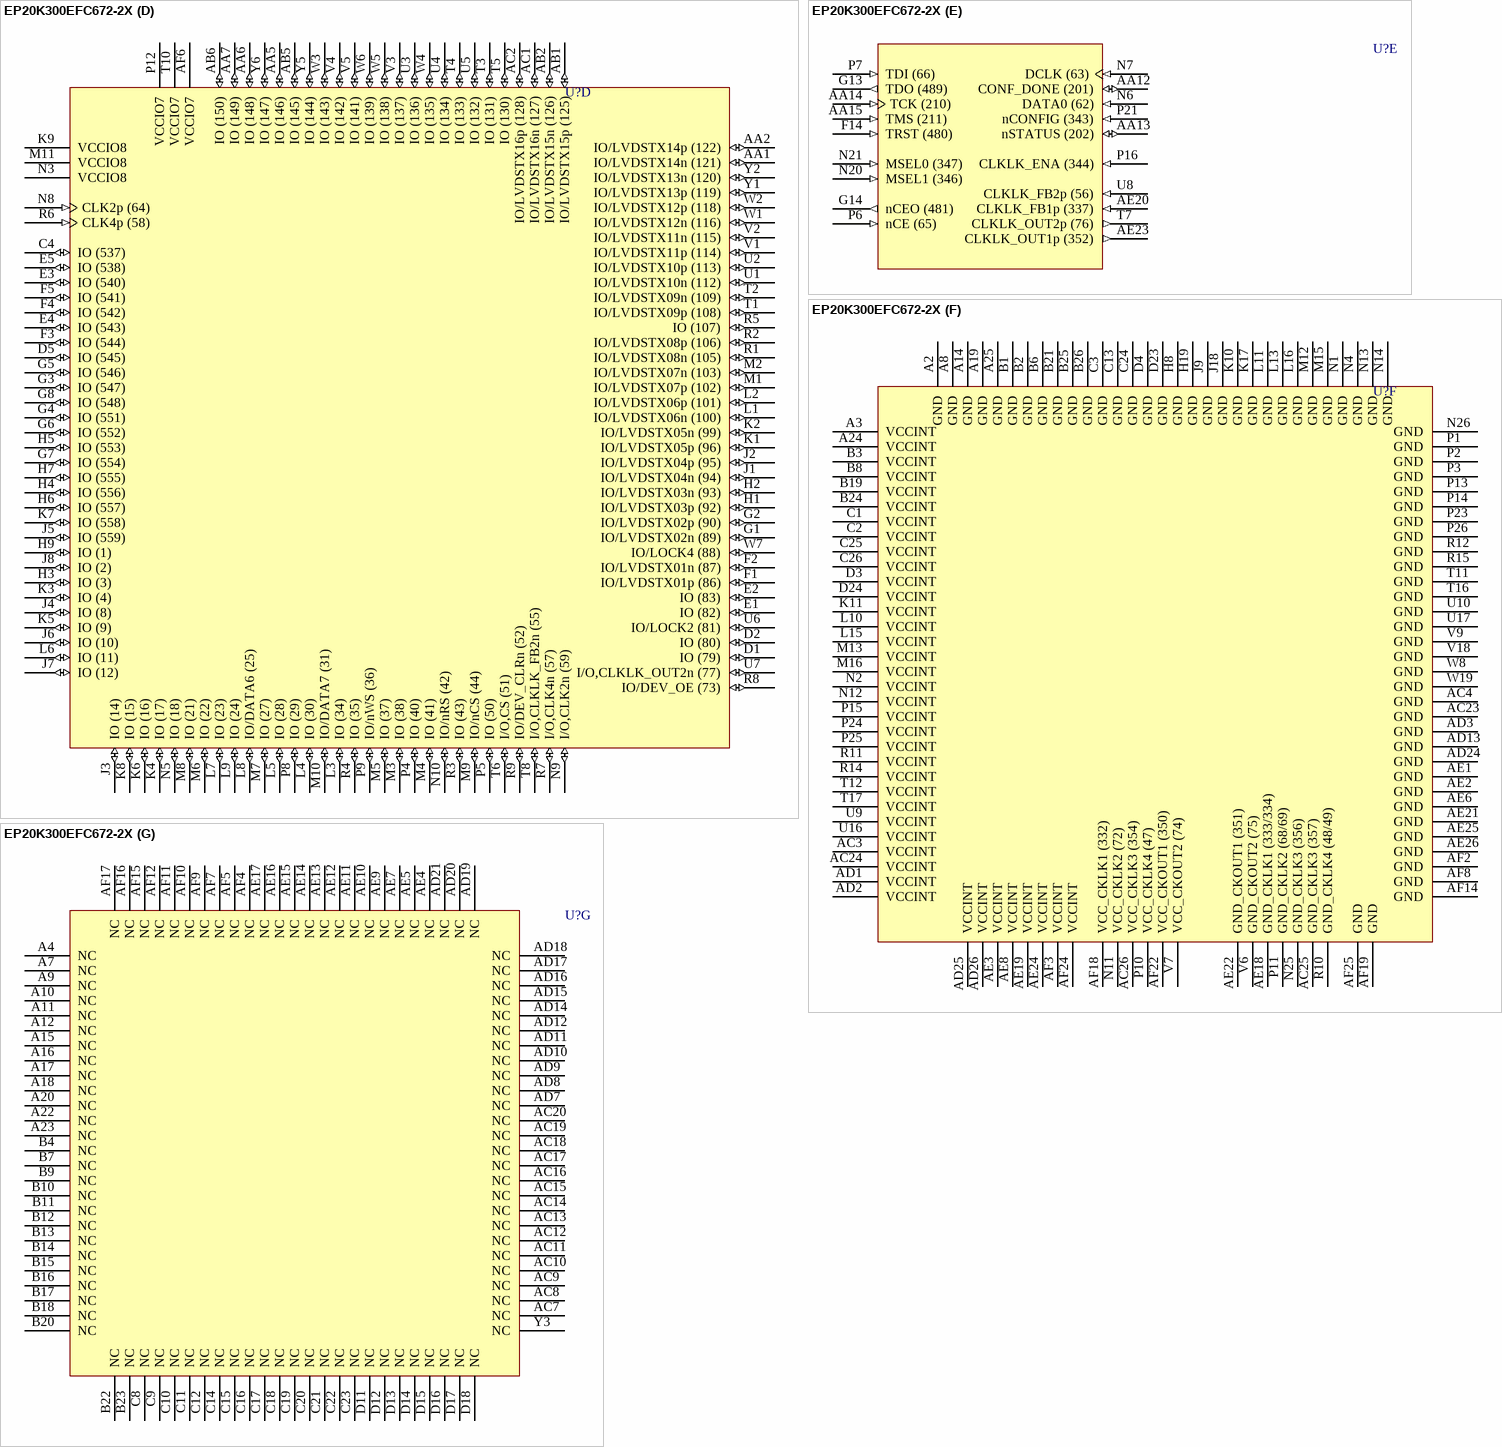
[diagram p236: symbol EP20K300EFC672-2X]

## EP20K300EFC672-2X
designator U?
APEX 20K300E PLD with PLLs and LVDS, 672-Pin FBGA, Commercial Grade, Speed Grade 2; Published: 17-Jul-2002; LatestRevisionDate: 13-Apr-2006; LatestRevisionNote: IPC-7351 Footprint Added.; DatasheetVersion: Mar-2004; PackageVersion: ver14.1, Oct-2005; PackageReference: FBGA672; Publisher: Altium Limited; PackageDescription: 672-Ball FineLine Ball Grid Array (FBGA672) - Flip Chip; Code_JEDEC: MS-034-AAL-1; ComponentLink1Description: Manufacturer Link; ComponentLink1URL: http://www.altera.com/products/devices/apex/apx-index.html; ComponentLink2Description: Datasheet; ComponentLink2URL: http://www.altera.com/literature/ds/apex.pdf
footprint FBGA672 (BGA, 672-Leads, Body 27x27mm, Pitch 1mm)
3D model EP20K300E-FBGA672 (672-Ball FineLine Ball Grid Array (FBGA672) - Flip Chip)
part A pins: A5 IO (535) (io), A6 VCCIO1 (power), A13 VCCIO2 (power), B5 IO (534) (io), C5 IO (533) (io), C6 IO (532) (io), C7 IO (531) (io), D6 IO (522) (io), D7 IO (521) (io), D8 IO (513) (io), D9 IO (508) (io), D10 IO (506) (io), D19 IO (457) (io), D20 IO (454) (io), D21 IO (441) (io), D22 IO (433) (io), E6 IO (530) (io), E7 IO (517) (io), E8 IO (514) (io), E9 IO (505) (io), E10 IO (499) (io), E11 IO (495) (io), E12 IO (494) (io), E13 IO (475) (io), E14 IO (473) (io), E15 IO (471) (io), E16 IO (467) (io), E17 IO (461) (io), E18 IO (459) (io), E19 IO (452) (io), E20 IO (448) (io), E21 IO (439) (io), E23 IO (432) (io), E24 IO (435) (io), F6 IO/DATA5 (560) (io), F7 IO (529) (io), F8 IO (516) (io), F9 IO (507) (io), F10 IO/DATA3 (536) (io), F11 IO (502) (io), F12 IO (492) (io), F13 FAST2 (488) (io), F15 IO (472) (io), F16 IO (465) (io), F17 IO (462) (io), F18 IO (460) (io), F19 IO (451) (io), F20 IO (440) (io), F23 IO (438) (io), F24 IO (434) (io), G9 IO/DATA4 (549) (io), G10 IO (518) (io), G11 IO (504) (io), G12 IO (503) (io), G15 IO (477) (io), G16 IO (468) (io), G17 IO (463) (io), G18 IO (456) (io), G19 IO (450) (io), G23 IO (437) (io), H10 IO (519) (io), H11 IO (510) (io), H12 IO (498) (io), H13 IO (491) (io), H14 FAST1 (482) (io), H15 IO (474) (io), H16 IO (470) (io), H17 IO (464) (io), H18 IO (455) (io), H23 IO (436) (io), J10 VCCIO1 (power), J11 IO (520) (io), J12 IO/DATA2 (523) (io), J13 IO (496) (io), J14 IO/RDYnBSY (497) (io), J15 IO/INIT_DONE (493) (io), J16 IO (479) (io), J17 IO (466) (io), J19 IO (449) (io), K12 IO (509) (io), K13 IO/DATA1 (511) (io), K14 I/O,CLKUSR (500) (io), K15 IO (478) (io), K16 VCCIO2 (power), K18 IO (453) (io), L12 VCCIO1 (power), L14 IO (476) (io), M14 VCCIO2 (power)
part B pins: A21 VCCIO3 (power), AA21 IO (261) (io), AA22 IO (274) (io), AA25 IO/LVDSRX01p (364) (io), AA26 IO/LVDSRX01n (365) (io), AB21 IO (263) (io), AB22 IO (265) (io), AB25 IO (358) (io), AB26 IO (359) (io), AF20 I/O,CLKLK_FB1n (336) (io), AF23 I/O,CLKLK_OUT1n (353) (io), D25 IO/LVDSRX16n (406) (io), D26 IO/LVDSRX16p (407) (io), E22 IO (430) (io), E25 IO/LVDSRX15p (404) (io), E26 IO/LVDSRX15n (405) (io), F21 IO (429) (io), F22 IO (427) (io), F25 IO/LVDSRX14n (400) (io), F26 IO/LVDSRX14p (401) (io), G20 IO (428) (io), G21 IO (425) (io), G22 IO (418) (io), G24 IO (423) (io), G25 IO/LVDSRX13p (398) (io), G26 IO/LVDSRX13n (399) (io), H20 IO (419) (io), H21 IO (424) (io), H22 IO (421) (io), H24 IO (415) (io), H25 IO/LVDSRX12n (395) (io), H26 IO/LVDSRX12p (397) (io), J20 IO (417) (io), J21 IO (426) (io), J22 IO (422) (io), J23 IO (386) (io), J24 IO (361) (io), J25 IO/LVDSRX11p (393) (io), J26 IO/LVDSRX11n (394) (io), K19 IO (416) (io), K20 IO (412) (io), K21 IO (410) (io), K22 IO (413) (io), K23 IO (411) (io), K24 IO (414) (io), K25 IO/LVDSRX10n (391) (io), K26 IO/LVDSRX10p (392) (io), L17 VCCIO3 (power), L18 IO/LOCK3 (366) (io), L19 IO (360) (io), L20 IO (306) (io), L21 IO/LOCK1 (326) (io), L22 IO (325) (io), L23 IO (329) (io), L24 IO (330) (io), L25 IO/LVDSRX09p (387) (io), L26 IO/LVDSRX09n (388) (io), M17 IO (308) (io), M18 IO (310) (io), M19 CLK3p (339) (in), M20 I/O,CLK3n (338) (io), M21 IO (318) (io), M22 IO (322) (io), M23 IO (324) (io), M24 IO (319) (io), M25 IO/LVDSRX08n (384) (io), M26 IO/LVDSRX08p (385) (io), N15 VCCIO3 (power), N16 IO (286) (io), N17 IO (293) (io), N18 IO (302) (io), N19 IO (304) (io), N22 IO (305) (io), N23 IO (331) (io), N24 VCCIO4 (power), P17 IO (280) (io), P18 IO (292) (io), P19 I/O,CLK1n (340) (io), P20 CLK1p (345) (in), P22 IO (299) (io), R16 VCCIO4 (power), R17 IO (276) (io), R18 IO (281) (io), R19 IO (290) (io), R20 IO (298) (io), R21 IO (296) (io), R22 IO (323) (io), R23 IO (312) (io), R24 IO (316) (io), R25 IO/LVDSRX07p (380) (io), R26 IO/LVDSRX07n (381) (io), T18 IO (267) (io), T19 IO (278) (io), T20 IO (284) (io), T21 IO (295) (io), T22 IO (309) (io), T23 IO (311) (io), T24 IO (317) (io), T25 IO/LVDSRX06n (378) (io), T26 IO/LVDSRX06p (379) (io), U18 VCCIO4 (power), U19 IO (264) (io), U20 IO (275) (io), U21 IO (279) (io), U22 IO (297) (io), U23 IO (303) (io), U24 IO (315) (io), U25 IO/LVDSRX05p (374) (io), U26 IO/LVDSRX05n (377) (io), V19 IO (266) (io), V20 IO (269) (io), V21 IO (270) (io), V22 IO (289) (io), V23 IO (291) (io), V24 IO (285) (io), V25 IO/LVDSRX04n (372) (io), V26 IO/LVDSRX04p (373) (io), W21 IO (268) (io), W22 IO (273) (io), W23 IO (277) (io), W24 IO (283) (io), W25 IO/LVDSRX03p (370) (io), W26 IO/LVDSRX03n (371) (io), Y21 IO (272) (io), Y22 IO (262) (io), Y25 IO/LVDSRX02n (367) (io), Y26 IO/LVDSRX02p (368) (io)
part C pins: AA3 IO (159) (io), AA4 IO (154) (io), AA8 IO (174) (io), AA9 IO (173) (io), AA10 IO (182) (io), AA11 IO (186) (io), AA16 IO (223) (io), AA17 IO (229) (io), AA18 IO (232) (io), AA19 IO (237) (io), AA20 IO (250) (io), AA23 IO (256) (io), AA24 IO (257) (io), AB3 IO (157) (io), AB4 IO (153) (io), AB7 IO (161) (io), AB8 IO (170) (io), AB9 IO (179) (io), AB10 IO (185) (io), AB11 IO (183) (io), AB12 IO (199) (io), AB13 IO (212) (io), AB14 IO (214) (io), AB15 IO (218) (io), AB16 IO (220) (io), AB17 IO (227) (io), AB18 IO (230) (io), AB19 IO (243) (io), AB20 IO (242) (io), AB23 IO (258) (io), AB24 IO (251) (io), AC5 IO (155) (io), AC6 IO (168) (io), AC21 IO (253) (io), AC22 IO (252) (io), AD4 IO (158) (io), AD5 IO (160) (io), AD6 IO (169) (io), AD22 IO (239) (io), AD23 IO (249) (io), AF13 VCCIO6 (power), AF21 VCCIO5 (power), R13 VCCIO6 (power), T9 IO (172) (io), T13 IO (194) (io), T14 IO (221) (io), T15 VCCIO5 (power), U11 VCCIO6 (power), U12 IO (197) (io), U13 IO (196) (io), U14 IO (216) (io), U15 IO (226) (io), V8 IO (171) (io), V10 VCCIO6 (power), V11 IO (184) (io), V12 IO (190) (io), V13 IO (200) (io), V14 IO (213) (io), V15 IO (217) (io), V16 IO (228) (io), V17 VCCIO5 (power), W9 IO (177) (io), W10 IO (180) (io), W11 IO (188) (io), W12 IO (191) (io), W13 IO (198) (io), W14 IO (195) (io), W15 IO (219) (io), W16 IO (225) (io), W17 IO (234) (io), W18 IO (236) (io), W20 IO (240) (io), Y4 IO (156) (io), Y7 IO (162) (io), Y8 IO (175) (io), Y9 IO (176) (io), Y10 IO (181) (io), Y11 IO (187) (io), Y12 IO (193) (io), Y13 FAST4 (203) (io), Y14 FAST3 (209) (io), Y15 IO (215) (io), Y16 IO (224) (io), Y17 IO (231) (io), Y18 IO (235) (io), Y19 IO (238) (io), Y20 IO (241) (io), Y23 IO (254) (io), Y24 IO (255) (io)
part D pins: AA1 IO/LVDSTX14n (121) (io), AA2 IO/LVDSTX14p (122) (io), AA5 IO (146) (io), AA6 IO (148) (io), AA7 IO (149) (io), AB1 IO/LVDSTX15p (125) (io), AB2 IO/LVDSTX15n (126) (io), AB5 IO (145) (io), AB6 IO (150) (io), AC1 IO/LVDSTX16n (127) (io), AC2 IO/LVDSTX16p (128) (io), AF6 VCCIO7 (power), C4 IO (537) (io), D1 IO (79) (io), D2 IO (80) (io), D5 IO (545) (io), E1 IO (82) (io), E2 IO (83) (io), E3 IO (540) (io), E4 IO (543) (io), E5 IO (538) (io), F1 IO/LVDSTX01p (86) (io), F2 IO/LVDSTX01n (87) (io), F3 IO (544) (io), F4 IO (542) (io), F5 IO (541) (io), G1 IO/LVDSTX02n (89) (io), G2 IO/LVDSTX02p (90) (io), G3 IO (547) (io), G4 IO (551) (io), G5 IO (546) (io), G6 IO (552) (io), G7 IO (554) (io), G8 IO (548) (io), H1 IO/LVDSTX03p (92) (io), H2 IO/LVDSTX03n (93) (io), H3 IO (3) (io), H4 IO (556) (io), H5 IO (553) (io), H6 IO (557) (io), H7 IO (555) (io), H9 IO (1) (io), J1 IO/LVDSTX04n (94) (io), J2 IO/LVDSTX04p (95) (io), J3 IO (14) (io), J4 IO (8) (io), J5 IO (559) (io), J6 IO (10) (io), J7 IO (12) (io), J8 IO (2) (io), K1 IO/LVDSTX05p (96) (io), K2 IO/LVDSTX05n (99) (io), K3 IO (4) (io), K4 IO (17) (io), K5 IO (9) (io), K6 IO (16) (io), K7 IO (558) (io), K8 IO (15) (io), K9 VCCIO8 (power), L1 IO/LVDSTX06n (100) (io), L2 IO/LVDSTX06p (101) (io), L3 IO (34) (io), L4 IO (30) (io), L5 IO (28) (io), L6 IO (11) (io), L7 IO (23) (io), L8 IO/DATA6 (25) (io), L9 IO (24) (io), M1 IO/LVDSTX07p (102) (io), M2 IO/LVDSTX07n (103) (io), M3 IO (38) (io), M4 IO (41) (io), M5 IO (37) (io), M6 IO (22) (io), M7 IO (27) (io), M8 IO (21) (io), M9 IO/nCS (44) (io), M10 IO/DATA7 (31) (io), M11 VCCIO8 (power), N3 VCCIO8 (power), N5 IO (18) (io), N8 CLK2p (64) (in), N9 I/O,CLK2n (59) (io), N10 IO/nRS (42) (io), P4 IO (40) (io), P5 IO (50) (io), P8 IO (29) (io), P9 IO/nWS (36) (io), P12 VCCIO7 (power), R1 IO/LVDSTX08n (105) (io), R2 IO/LVDSTX08p (106) (io), R3 IO (43) (io), R4 IO (35) (io), R5 IO (107) (io), R6 CLK4p (58) (in), R7 I/O,CLK4n (57) (io), R8 IO/DEV_OE (73) (io), R9 IO/DEV_CLRn (52) (io), T1 IO/LVDSTX09p (108) (io), T2 IO/LVDSTX09n (109) (io), T3 IO (131) (io), T4 IO (133) (io), T5 IO (130) (io), T6 I/O,CS (51) (io), T8 I/O,CLKLK_FB2n (55) (io), T10 VCCIO7 (power), U1 IO/LVDSTX10n (112) (io), U2 IO/LVDSTX10p (113) (io), U3 IO (136) (io), U4 IO (134) (io), U5 IO (132) (io), U6 IO/LOCK2 (81) (io), U7 I/O,CLKLK_OUT2n (77) (io), V1 IO/LVDSTX11p (114) (io), V2 IO/LVDSTX11n (115) (io), V3 IO (137) (io), V4 IO (142) (io), V5 IO (141) (io), W1 IO/LVDSTX12n (116) (io), W2 IO/LVDSTX12p (118) (io), W3 IO (143) (io), W4 IO (135) (io), W5 IO (138) (io), W6 IO (139) (io), W7 IO/LOCK4 (88) (io), Y1 IO/LVDSTX13p (119) (io), Y2 IO/LVDSTX13n (120) (io), Y5 IO (144) (io), Y6 IO (147) (io)
part E pins: AA12 CONF_DONE (201) (io), AA13 nSTATUS (202) (io), AA14 TCK (210) (in), AA15 TMS (211) (in), AE20 CLKLK_FB1p (337) (in), AE23 CLKLK_OUT1p (352) (out), F14 TRST (480) (in), G13 TDO (489) (out), G14 nCEO (481) (out), N6 DATA0 (62) (in), N7 DCLK (63) (in), N20 MSEL1 (346) (in), N21 MSEL0 (347) (in), P6 nCE (65) (in), P7 TDI (66) (in), P16 CLKLK_ENA (344) (in), P21 nCONFIG (343) (in), T7 CLKLK_OUT2p (76) (out), U8 CLKLK_FB2p (56) (in)
part F pins: A2 GND (power), A3 VCCINT (power), A8 GND (power), A14 GND (power), A19 GND (power), A24 VCCINT (power), A25 GND (power), AC3 VCCINT (power), AC4 GND (power), AC23 GND (power), AC24 VCCINT (power), AC25 GND_CKLK3 (357) (power), AC26 VCC_CKLK3 (354) (power), AD1 VCCINT (power), AD2 VCCINT (power), AD3 GND (power), AD13 GND (power), AD24 GND (power), AD25 VCCINT (power), AD26 VCCINT (power), AE1 GND (power), AE2 GND (power), AE3 VCCINT (power), AE6 GND (power), AE8 VCCINT (power), AE18 GND_CKLK1 (333/334) (power), AE19 VCCINT (power), AE21 GND (power), AE22 GND_CKOUT1 (351) (power), AE24 VCCINT (power), AE25 GND (power), AE26 GND (power), AF2 GND (power), AF3 VCCINT (power), AF8 GND (power), AF14 GND (power), AF18 VCC_CKLK1 (332) (power), AF19 GND (power), AF22 VCC_CKOUT1 (350) (power), AF24 VCCINT (power), AF25 GND (power), B1 GND (power), B2 GND (power), B3 VCCINT (power), B6 GND (power), B8 VCCINT (power), B19 VCCINT (power), B21 GND (power), B24 VCCINT (power), B25 GND (power), B26 GND (power), C1 VCCINT (power), C2 VCCINT (power), C3 GND (power), C13 GND (power), C24 GND (power), C25 VCCINT (power), C26 VCCINT (power), D3 VCCINT (power), D4 GND (power), D23 GND (power), D24 VCCINT (power), H8 GND (power), H19 GND (power), J9 GND (power), J18 GND (power), K10 GND (power), K11 VCCINT (power), K17 GND (power), L10 VCCINT (power), L11 GND (power), L13 GND (power), L15 VCCINT (power), L16 GND (power), M12 GND (power), M13 VCCINT (power), M15 GND (power), M16 VCCINT (power), N1 GND (power), N2 VCCINT (power), N4 GND (power), N11 VCC_CKLK2 (72) (power), N12 VCCINT (power), N13 GND (power), N14 GND (power), N25 GND_CKLK3 (356) (power), N26 GND (power), P1 GND (power), P2 GND (power), P3 GND (power), P10 VCC_CKLK4 (47) (power), P11 GND_CKLK2 (68/69) (power), P13 GND (power), P14 GND (power), P15 VCCINT (power), P23 GND (power), P24 VCCINT (power), P25 VCCINT (power), P26 GND (power), R10 GND_CKLK4 (48/49) (power), R11 VCCINT (power), R12 GND (power), R14 VCCINT (power), R15 GND (power), T11 GND (power), T12 VCCINT (power), T16 GND (power), T17 VCCINT (power), U9 VCCINT (power), U10 GND (power), U16 VCCINT (power), U17 GND (power), V6 GND_CKOUT2 (75) (power), V7 VCC_CKOUT2 (74) (power), V9 GND (power), V18 GND (power), W8 GND (power), W19 GND (power)
part G pins: A4 NC, A7 NC, A9 NC, A10 NC, A11 NC, A12 NC, A15 NC, A16 NC, A17 NC, A18 NC, A20 NC, A22 NC, A23 NC, AC7 NC, AC8 NC, AC9 NC, AC10 NC, AC11 NC, AC12 NC, AC13 NC, AC14 NC, AC15 NC, AC16 NC, AC17 NC, AC18 NC, AC19 NC, AC20 NC, AD7 NC, AD8 NC, AD9 NC, AD10 NC, AD11 NC, AD12 NC, AD14 NC, AD15 NC, AD16 NC, AD17 NC, AD18 NC, AD19 NC, AD20 NC, AD21 NC, AE4 NC, AE5 NC, AE7 NC, AE9 NC, AE10 NC, AE11 NC, AE12 NC, AE13 NC, AE14 NC, AE15 NC, AE16 NC, AE17 NC, AF4 NC, AF5 NC, AF7 NC, AF9 NC, AF10 NC, AF11 NC, AF12 NC, AF15 NC, AF16 NC, AF17 NC, B4 NC, B7 NC, B9 NC, B10 NC, B11 NC, B12 NC, B13 NC, B14 NC, B15 NC, B16 NC, B17 NC, B18 NC, B20 NC, B22 NC, B23 NC, C8 NC, C9 NC, C10 NC, C11 NC, C12 NC, C14 NC, C15 NC, C16 NC, C17 NC, C18 NC, C19 NC, C20 NC, C21 NC, C22 NC, C23 NC, D11 NC, D12 NC, D13 NC, D14 NC, D15 NC, D16 NC, D17 NC, D18 NC, Y3 NC

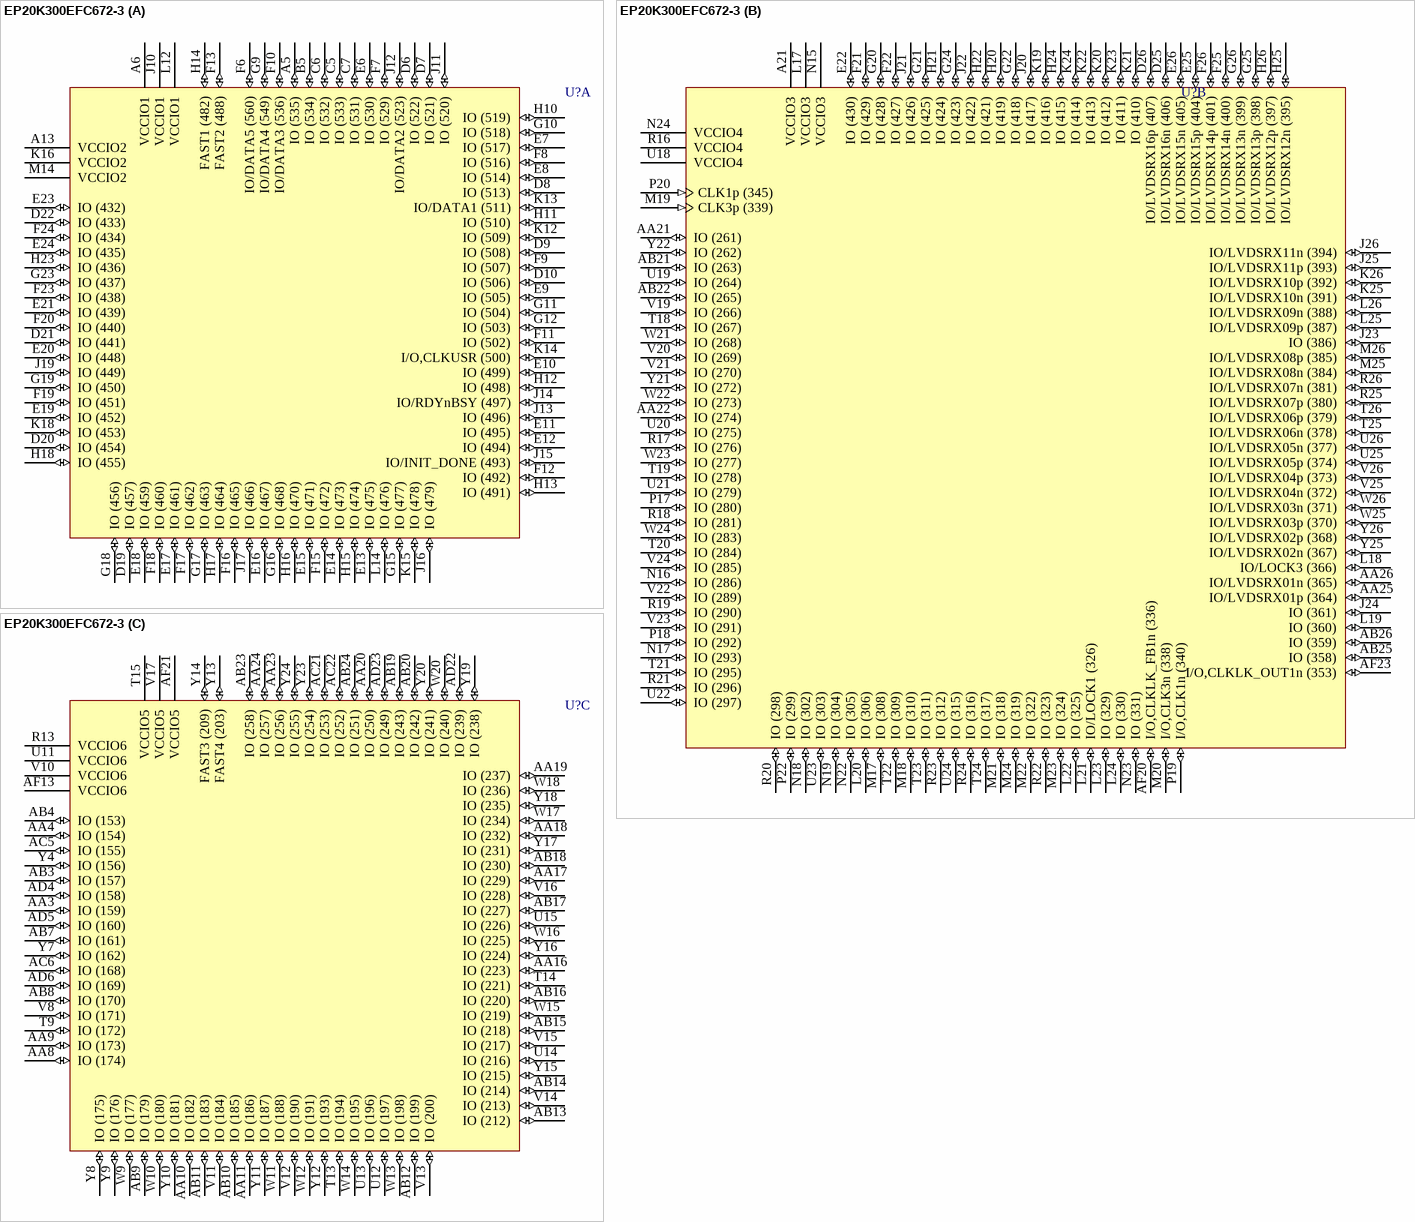
[diagram p237: symbol EP20K300EFC672-3]

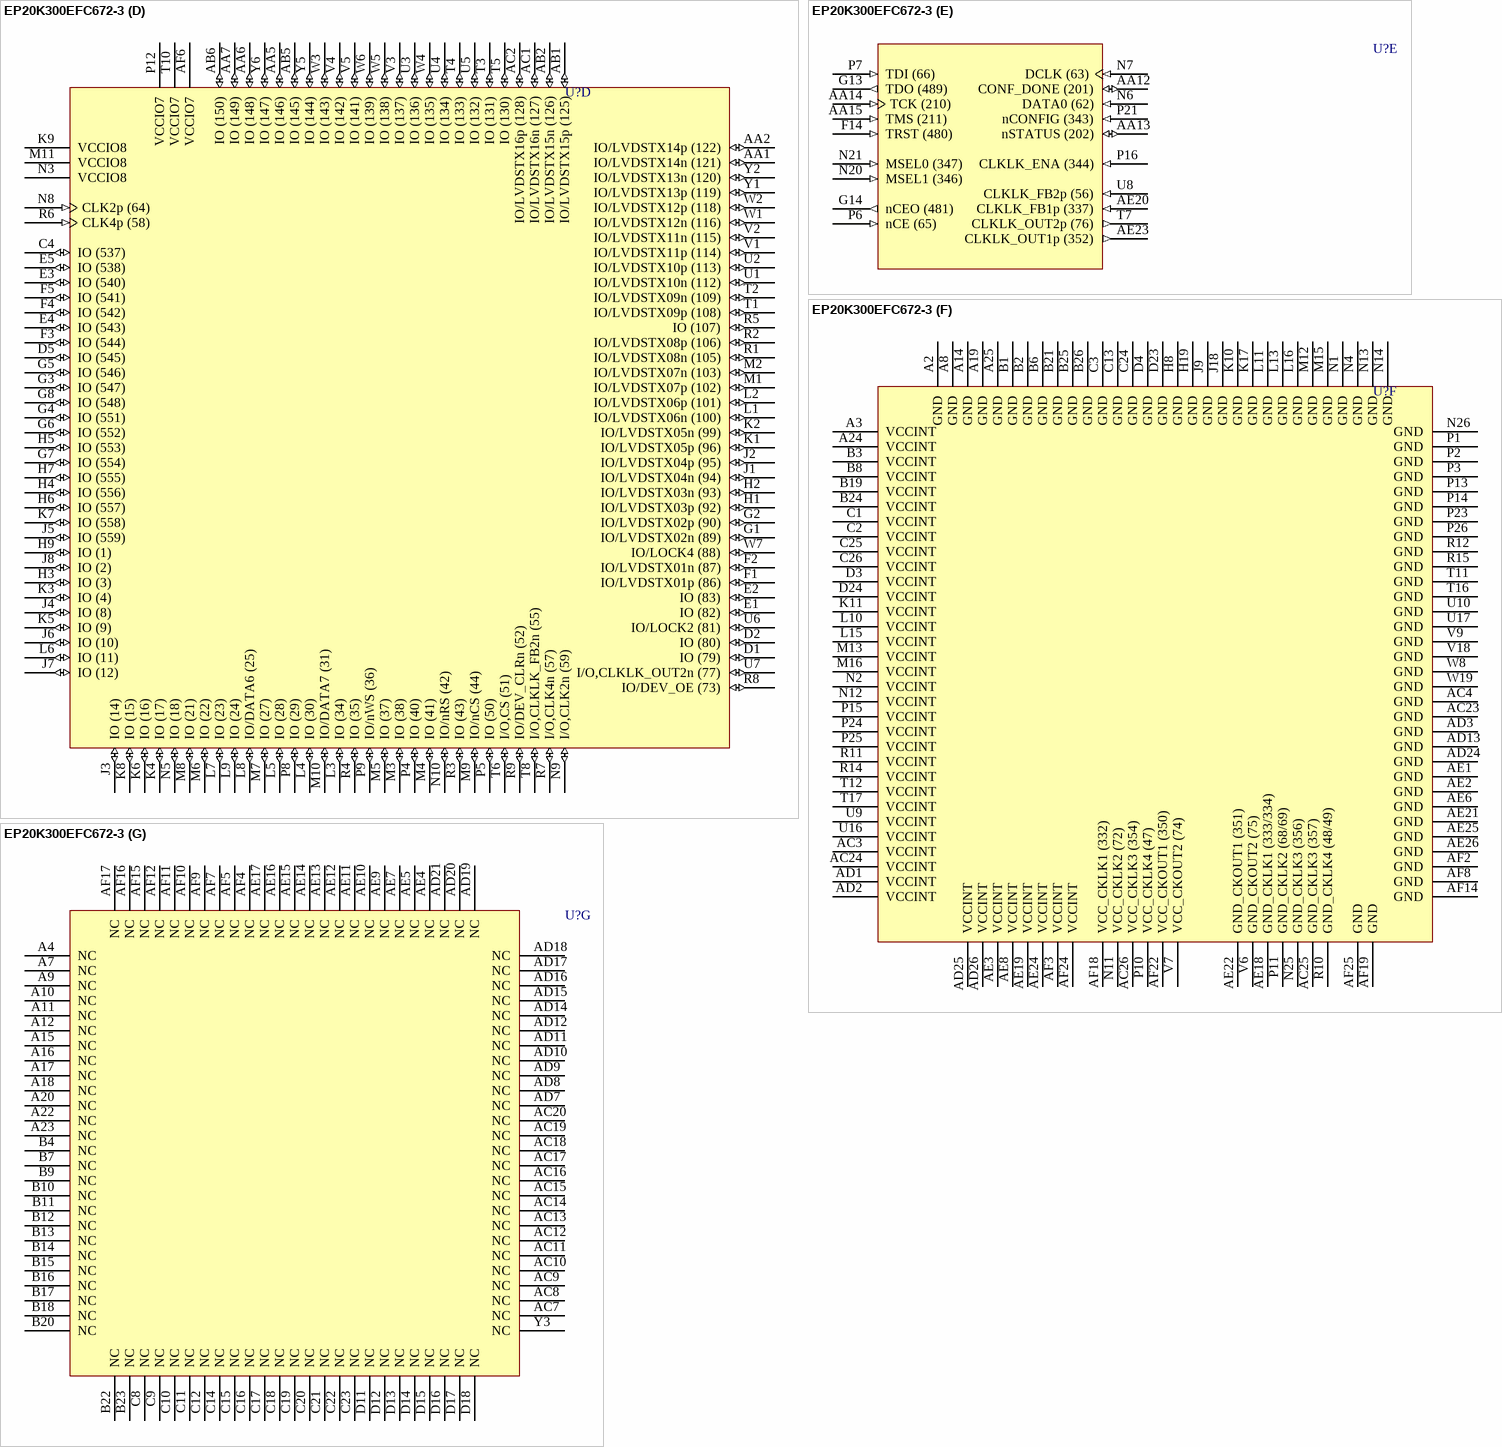
[diagram p238: symbol EP20K300EFC672-3]